# Altium footprint library B3PS-VH(LF)(SN).PcbLib: 1 footprints
Each footprint in its own frame and in the unit in brackets; x right, y up, seen from the top. Pads: shape width x height; smd on the part's side, far side on the other; paste and mask are expansions set on the pad; w line width, h text height; cw(c..) or ccw(c..) is an arc to the next point about the centre after c.
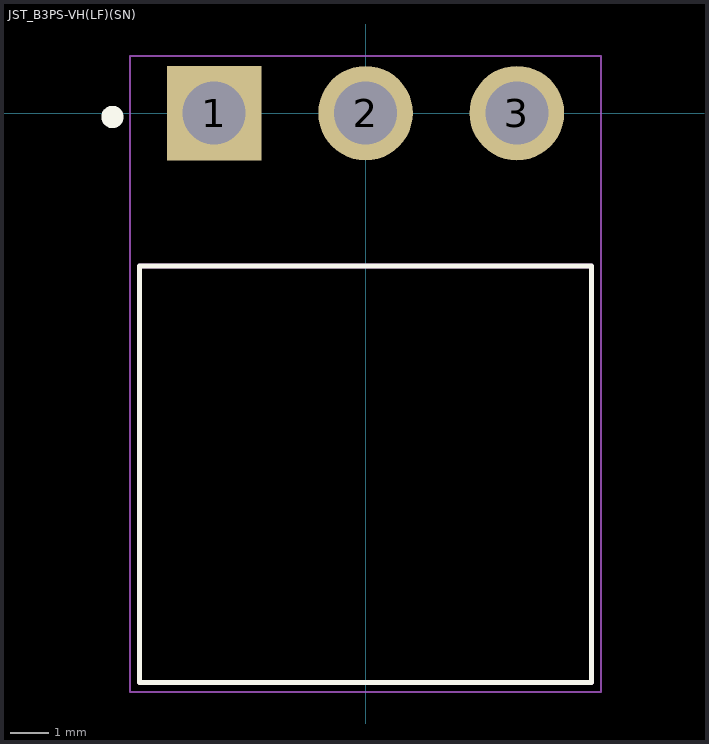
[diagram p0: the footprint, top view; thin cyan lines are the x and y axes]

## JST_B3PS-VH(LF)(SN) [mm]
pads (3):
  rect 2.475x2.475 hole 1.65: 1(-3.96,0)
  round 2.475 hole 1.65: 2(0,0) 3(3.96,0)
Top Overlay:
  circle w0.3: c-6.623,-0.1 r0.141
  lines w0.127: -5.91,-14.9 -5.91,-4 5.91,-4 5.91,-14.9 -5.91,-14.9
Mechanical 13:
  lines w0.127: -5.91,-14.9 -5.91,-4 5.91,-4 5.91,-14.9 -5.91,-14.9
Mechanical 15:
  lines w0.05: -6.16,-15.15 -6.16,1.5 6.16,1.5 6.16,-15.15 -6.16,-15.15
3D body "step_temp.STEP": height 8.5, standoff -3.6, extent -5.91,-14.9 5.91,0.57